# Altium footprint library CNCLib.PcbLib: 34 footprints (part 3 of 3)
Each footprint in its own frame and in the unit in brackets; x right, y up, seen from the top. Pads: shape width x height; smd on the part's side, far side on the other; paste and mask are expansions set on the pad; w line width, h text height; cw(c..) or ccw(c..) is an arc to the next point about the centre after c.
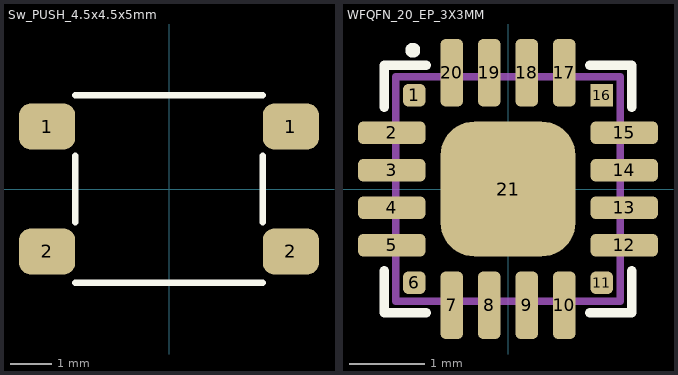
[diagram p2: the footprints below, top view; thin cyan lines are the x and y axes]

## Sw_PUSH_4.5x4.5x5mm [mm]
pads (4):
  rrect50% 1.35x1.1 smd: 1(-2.925,1.5) 1(2.925,1.5) 2(-2.925,-1.5) 2(2.925,-1.5)
Top Overlay:
  lines w0.152: -2.25,-2.25 2.25,-2.25 ; -2.25,-0.8 -2.25,0.8 ; -2.25,2.25 2.25,2.25 ; 2.25,-0.8 2.25,0.8
3D body: height 5, standoff 0, extent -1.22,-1.22 1.22,1.22
3D body: height 2.75, standoff 0, extent -2.25,-2.25 2.25,2.25

## WFQFN_20_EP_3X3MM [mm]
pads (21):
  rrect50% 0.3x0.3 smd: 1(-1.25,1.25) 6(-1.25,-1.25) 11(1.25,-1.25)
  rrect50% 0.9x0.3 smd: 2(-1.55,0.75) 3(-1.55,0.25) 4(-1.55,-0.25) 5(-1.55,-0.75) 12(1.55,-0.75) 13(1.55,-0.25) 14(1.55,0.25) 15(1.55,0.75)
  rrect50% 0.3x0.9 smd: 7(-0.75,-1.55) 8(-0.25,-1.55) 9(0.25,-1.55) 10(0.75,-1.55) 17(0.75,1.55) 18(0.25,1.55) 19(-0.25,1.55) 20(-0.75,1.55)
  rect 0.3x0.3 smd: 16(1.25,1.25)
  rrect50% 1.8x1.8 smd: 21(0,0)
Top Overlay:
  circle w0.1: c-1.27,1.85 r0.05
  lines w0.127: -1.65,-1.092 -1.65,-1.65 -1.092,-1.65 ; -1.65,1.092 -1.65,1.65 -1.092,1.65 ; 1.092,-1.65 1.65,-1.65 1.65,-1.092 ; 1.092,1.65 1.65,1.65 1.65,1.092
Mechanical 1:
  lines w0.1: -1.5,-1.5 -1.5,1.5 1.5,1.5 1.5,-1.5 -1.5,-1.5
3D body: height 0.8, standoff 0, extent -1.5,-1.5 1.5,1.5